# EAGLE library part ADXL355BEZ (library ICs)
Accelerometer X, Y, Z Axis ±2g, 4g, 8g 1.5kHz 14-CLCC (6x6)
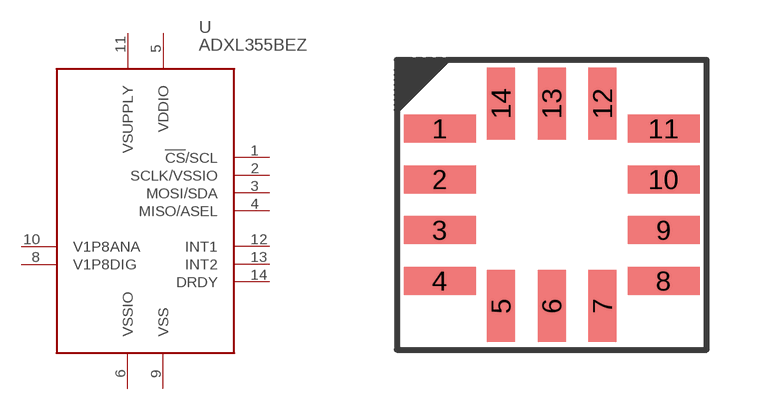
[diagram p251: symbol with the pads of ADXL355; footprint ADXL355]

Designator prefix U

## ADXL355BEZ (DIGIKEY: ADXL355BEZ-ND; HEIGHT: 2.25; PRICE_PER: 42.46; VALUE: ADXL355)  [ADXL355]
1  !CS!/SCL
2  SCLK/VSSIO
3  MOSI/SDA
4  MISO/ASEL
5  VDDIO
6  VSSIO
8  V1P8DIG
9  VSS
10  V1P8ANA
11  VSUPPLY
12  INT1
13  INT2
14  DRDY

## Footprint ADXL355 (pad centres in mm)
smd 1.8 x 0.7: 1 -2.8,1.905; 2 -2.8,0.635; 3 -2.8,-0.635; 4 -2.8,-1.905; 8 2.8,-1.905; 9 2.8,-0.635; 10 2.8,0.635; 11 2.8,1.905
smd 0.7 x 1.8: 5 -1.27,-2.535; 6 0,-2.535; 7 1.27,-2.535; 12 1.27,2.535; 13 0,2.535; 14 -1.27,2.535